# Altium footprint library 7443557760.PcbLib: 1 footprints
Each footprint in its own frame and in the unit in brackets; x right, y up, seen from the top. Pads: shape width x height; smd on the part's side, far side on the other; paste and mask are expansions set on the pad; w line width, h text height; cw(c..) or ccw(c..) is an arc to the next point about the centre after c.
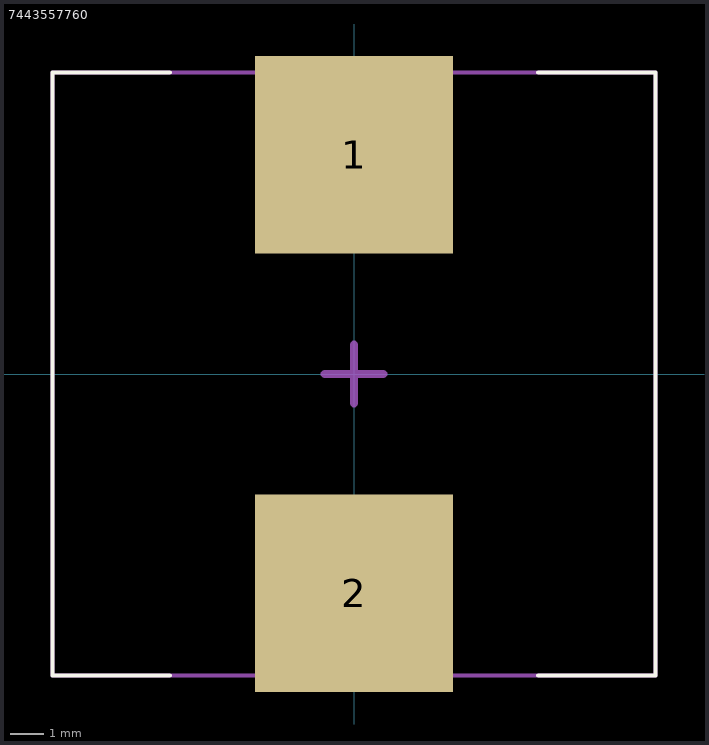
[diagram p0: the footprint, top view; thin cyan lines are the x and y axes]

## 7443557760 [mm]
pads (2):
  rect 6x6 smd mask+0.051: 1(0,6.65) 2(0,-6.65)
Top Overlay:
  lines w0.127: -5.588,-9.144 -9.144,-9.144 -9.144,9.144 -5.588,9.144 ; 5.588,-9.144 9.144,-9.144 9.144,9.144 5.588,9.144
Mechanical 13:
  lines w0.127: -9.144,-9.144 -9.144,9.144 9.144,9.144 9.144,-9.144 -9.144,-9.144
Mechanical 15:
  lines w0.254: -0.889,0 0,0 ; 0,-0.889 0,0 ; 0,0.889 0,0 ; 0.889,0 0,0
3D body "WE-HCI_1890_7443557 (rev1).stp": height 8.95, standoff 0.05, extent -9.1,-9.15 9.1,9.15